# Altium integrated library Vishay Roederstein Electrolytic Snap-In Pins Capacitor.IntLib: 936 symbols (part 16 of 16)
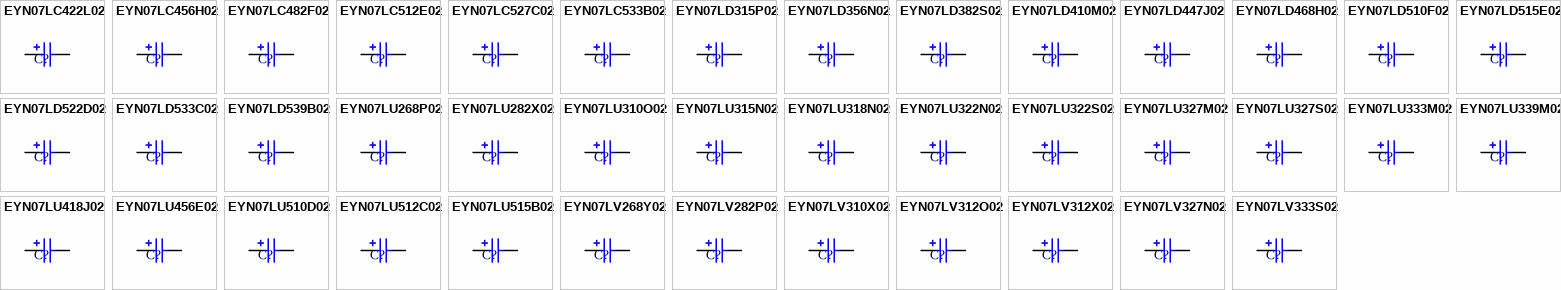
[diagram p38: symbols EYN07LC422L02 to EYN07LV333S02]

## EYN07LU322N02
designator C?
Aluminum Electrolytic Capacitor, Power Capacitor Style EYN, Snap-in 6mm Solder Pins: 220uF, 250V; PCB_Layout: Complies with Manufacturer's Recommendation.; DrillSize: Nominal, Complies with Manufacturer's Recommendation.; Published: 19-Mar-2004; DatasheetDocument: 4-Feb-2002; PackageReference: CAPPRS10-22X25; Publisher: Altium Limited; ComponentLink1Description: Manufacturer Link; ComponentLink1URL: http://www.vishay.com/; ComponentLink2Description: Datasheet; ComponentLink2URL: http://www.vishay.com/docs/25137/eyn.pdf; Value: 220uF
footprint CAPPRS10-22X25 (Capacitor, Electrolytic, Radial, Snap-In Pins; Body 22 x 25 mm (Dia.xH typ); Pin Spacing 10 mm (typ))
simulation model CAP (Capacitor)
signal-integrity model EYN07LU322N02
pins: 1, 2
1 alternate drawing of the same symbol

## EYN07LU322S02
designator C?
Aluminum Electrolytic Capacitor, Power Capacitor Style EYN, Snap-in 6mm Solder Pins: 220uF, 200V; PCB_Layout: Complies with Manufacturer's Recommendation.; DrillSize: Nominal, Complies with Manufacturer's Recommendation.; Published: 19-Mar-2004; DatasheetDocument: 4-Feb-2002; PackageReference: CAPPRS10-22X25; Publisher: Altium Limited; ComponentLink1Description: Manufacturer Link; ComponentLink1URL: http://www.vishay.com/; ComponentLink2Description: Datasheet; ComponentLink2URL: http://www.vishay.com/docs/25137/eyn.pdf; Value: 220uF
footprint CAPPRS10-22X25 (Capacitor, Electrolytic, Radial, Snap-In Pins; Body 22 x 25 mm (Dia.xH typ); Pin Spacing 10 mm (typ))
simulation model CAP (Capacitor)
signal-integrity model EYN07LU322S02
pins: 1, 2
1 alternate drawing of the same symbol

## EYN07LU327M02
designator C?
Aluminum Electrolytic Capacitor, Power Capacitor Style EYN, Snap-in 6mm Solder Pins: 270uF, 160V; PCB_Layout: Complies with Manufacturer's Recommendation.; DrillSize: Nominal, Complies with Manufacturer's Recommendation.; Published: 19-Mar-2004; DatasheetDocument: 4-Feb-2002; PackageReference: CAPPRS10-22X25; Publisher: Altium Limited; ComponentLink1Description: Manufacturer Link; ComponentLink1URL: http://www.vishay.com/; ComponentLink2Description: Datasheet; ComponentLink2URL: http://www.vishay.com/docs/25137/eyn.pdf; Value: 270uF
footprint CAPPRS10-22X25 (Capacitor, Electrolytic, Radial, Snap-In Pins; Body 22 x 25 mm (Dia.xH typ); Pin Spacing 10 mm (typ))
simulation model CAP (Capacitor)
signal-integrity model EYN07LU327M02
pins: 1, 2
1 alternate drawing of the same symbol

## EYN07LU327S02
designator C?
Aluminum Electrolytic Capacitor, Power Capacitor Style EYN, Snap-in 6mm Solder Pins: 270uF, 200V; PCB_Layout: Complies with Manufacturer's Recommendation.; DrillSize: Nominal, Complies with Manufacturer's Recommendation.; Published: 19-Mar-2004; DatasheetDocument: 4-Feb-2002; PackageReference: CAPPRS10-22X25; Publisher: Altium Limited; ComponentLink1Description: Manufacturer Link; ComponentLink1URL: http://www.vishay.com/; ComponentLink2Description: Datasheet; ComponentLink2URL: http://www.vishay.com/docs/25137/eyn.pdf; Value: 270uF
footprint CAPPRS10-22X25 (Capacitor, Electrolytic, Radial, Snap-In Pins; Body 22 x 25 mm (Dia.xH typ); Pin Spacing 10 mm (typ))
simulation model CAP (Capacitor)
signal-integrity model EYN07LU327S02
pins: 1, 2
1 alternate drawing of the same symbol

## EYN07LU333M02
designator C?
Aluminum Electrolytic Capacitor, Power Capacitor Style EYN, Snap-in 6mm Solder Pins: 330uF, 160V; PCB_Layout: Complies with Manufacturer's Recommendation.; DrillSize: Nominal, Complies with Manufacturer's Recommendation.; Published: 19-Mar-2004; DatasheetDocument: 4-Feb-2002; PackageReference: CAPPRS10-22X25; Publisher: Altium Limited; ComponentLink1Description: Manufacturer Link; ComponentLink1URL: http://www.vishay.com/; ComponentLink2Description: Datasheet; ComponentLink2URL: http://www.vishay.com/docs/25137/eyn.pdf; Value: 330uF
footprint CAPPRS10-22X25 (Capacitor, Electrolytic, Radial, Snap-In Pins; Body 22 x 25 mm (Dia.xH typ); Pin Spacing 10 mm (typ))
simulation model CAP (Capacitor)
signal-integrity model EYN07LU333M02
pins: 1, 2
1 alternate drawing of the same symbol

## EYN07LU339M02
designator C?
Aluminum Electrolytic Capacitor, Power Capacitor Style EYN, Snap-in 6mm Solder Pins: 390uF, 160V; PCB_Layout: Complies with Manufacturer's Recommendation.; DrillSize: Nominal, Complies with Manufacturer's Recommendation.; Published: 19-Mar-2004; DatasheetDocument: 4-Feb-2002; PackageReference: CAPPRS10-22X25; Publisher: Altium Limited; ComponentLink1Description: Manufacturer Link; ComponentLink1URL: http://www.vishay.com/; ComponentLink2Description: Datasheet; ComponentLink2URL: http://www.vishay.com/docs/25137/eyn.pdf; Value: 390uF
footprint CAPPRS10-22X25 (Capacitor, Electrolytic, Radial, Snap-In Pins; Body 22 x 25 mm (Dia.xH typ); Pin Spacing 10 mm (typ))
simulation model CAP (Capacitor)
signal-integrity model EYN07LU339M02
pins: 1, 2
1 alternate drawing of the same symbol

## EYN07LU418J02
designator C?
Aluminum Electrolytic Capacitor, Power Capacitor Style EYN, Snap-in 6mm Solder Pins: 1800uF, 63V; PCB_Layout: Complies with Manufacturer's Recommendation.; DrillSize: Nominal, Complies with Manufacturer's Recommendation.; Published: 19-Mar-2004; DatasheetDocument: 4-Feb-2002; PackageReference: CAPPRS10-22X25; Publisher: Altium Limited; ComponentLink1Description: Manufacturer Link; ComponentLink1URL: http://www.vishay.com/; ComponentLink2Description: Datasheet; ComponentLink2URL: http://www.vishay.com/docs/25137/eyn.pdf; Value: 1800uF
footprint CAPPRS10-22X25 (Capacitor, Electrolytic, Radial, Snap-In Pins; Body 22 x 25 mm (Dia.xH typ); Pin Spacing 10 mm (typ))
simulation model CAP (Capacitor)
signal-integrity model EYN07LU418J02
pins: 1, 2
1 alternate drawing of the same symbol

## EYN07LU456E02
designator C?
Aluminum Electrolytic Capacitor, Power Capacitor Style EYN, Snap-in 6mm Solder Pins: 5600uF, 25V; PCB_Layout: Complies with Manufacturer's Recommendation.; DrillSize: Nominal, Complies with Manufacturer's Recommendation.; Published: 19-Mar-2004; DatasheetDocument: 4-Feb-2002; PackageReference: CAPPRS10-22X25; Publisher: Altium Limited; ComponentLink1Description: Manufacturer Link; ComponentLink1URL: http://www.vishay.com/; ComponentLink2Description: Datasheet; ComponentLink2URL: http://www.vishay.com/docs/25137/eyn.pdf; Value: 5600uF
footprint CAPPRS10-22X25 (Capacitor, Electrolytic, Radial, Snap-In Pins; Body 22 x 25 mm (Dia.xH typ); Pin Spacing 10 mm (typ))
simulation model CAP (Capacitor)
signal-integrity model EYN07LU456E02
pins: 1, 2
1 alternate drawing of the same symbol

## EYN07LU510D02
designator C?
Aluminum Electrolytic Capacitor, Power Capacitor Style EYN, Snap-in 6mm Solder Pins: 10000uF, 16V; PCB_Layout: Complies with Manufacturer's Recommendation.; DrillSize: Nominal, Complies with Manufacturer's Recommendation.; Published: 19-Mar-2004; DatasheetDocument: 4-Feb-2002; PackageReference: CAPPRS10-22X25; Publisher: Altium Limited; ComponentLink1Description: Manufacturer Link; ComponentLink1URL: http://www.vishay.com/; ComponentLink2Description: Datasheet; ComponentLink2URL: http://www.vishay.com/docs/25137/eyn.pdf; Value: 10000uF
footprint CAPPRS10-22X25 (Capacitor, Electrolytic, Radial, Snap-In Pins; Body 22 x 25 mm (Dia.xH typ); Pin Spacing 10 mm (typ))
simulation model CAP (Capacitor)
signal-integrity model EYN07LU510D02
pins: 1, 2
1 alternate drawing of the same symbol

## EYN07LU512C02
designator C?
Aluminum Electrolytic Capacitor, Power Capacitor Style EYN, Snap-in 6mm Solder Pins: 12000uF, 10V; PCB_Layout: Complies with Manufacturer's Recommendation.; DrillSize: Nominal, Complies with Manufacturer's Recommendation.; Published: 19-Mar-2004; DatasheetDocument: 4-Feb-2002; PackageReference: CAPPRS10-22X25; Publisher: Altium Limited; ComponentLink1Description: Manufacturer Link; ComponentLink1URL: http://www.vishay.com/; ComponentLink2Description: Datasheet; ComponentLink2URL: http://www.vishay.com/docs/25137/eyn.pdf; Value: 12000uF
footprint CAPPRS10-22X25 (Capacitor, Electrolytic, Radial, Snap-In Pins; Body 22 x 25 mm (Dia.xH typ); Pin Spacing 10 mm (typ))
simulation model CAP (Capacitor)
signal-integrity model EYN07LU512C02
pins: 1, 2
1 alternate drawing of the same symbol

## EYN07LU515B02
designator C?
Aluminum Electrolytic Capacitor, Power Capacitor Style EYN, Snap-in 6mm Solder Pins: 15000uF, 6.3V; PCB_Layout: Complies with Manufacturer's Recommendation.; DrillSize: Nominal, Complies with Manufacturer's Recommendation.; Published: 19-Mar-2004; DatasheetDocument: 4-Feb-2002; PackageReference: CAPPRS10-22X25; Publisher: Altium Limited; ComponentLink1Description: Manufacturer Link; ComponentLink1URL: http://www.vishay.com/; ComponentLink2Description: Datasheet; ComponentLink2URL: http://www.vishay.com/docs/25137/eyn.pdf; Value: 15000uF
footprint CAPPRS10-22X25 (Capacitor, Electrolytic, Radial, Snap-In Pins; Body 22 x 25 mm (Dia.xH typ); Pin Spacing 10 mm (typ))
simulation model CAP (Capacitor)
signal-integrity model EYN07LU515B02
pins: 1, 2
1 alternate drawing of the same symbol

## EYN07LV268Y02
designator C?
Aluminum Electrolytic Capacitor, Power Capacitor Style EYN, Snap-in 6mm Solder Pins: 68uF, 500V; PCB_Layout: Complies with Manufacturer's Recommendation.; DrillSize: Nominal, Complies with Manufacturer's Recommendation.; Published: 19-Mar-2004; DatasheetDocument: 4-Feb-2002; PackageReference: CAPPRS10-22X30; Publisher: Altium Limited; ComponentLink1Description: Manufacturer Link; ComponentLink1URL: http://www.vishay.com/; ComponentLink2Description: Datasheet; ComponentLink2URL: http://www.vishay.com/docs/25137/eyn.pdf; Value: 68uF
footprint CAPPRS10-22X30 (Capacitor, Electrolytic, Radial, Snap-In Pins; Body 22 x 30 mm (Dia.xH typ); Pin Spacing 10 mm (typ))
simulation model CAP (Capacitor)
signal-integrity model EYN07LV268Y02
pins: 1, 2
1 alternate drawing of the same symbol

## EYN07LV282P02
designator C?
Aluminum Electrolytic Capacitor, Power Capacitor Style EYN, Snap-in 6mm Solder Pins: 82uF, 450V; PCB_Layout: Complies with Manufacturer's Recommendation.; DrillSize: Nominal, Complies with Manufacturer's Recommendation.; Published: 19-Mar-2004; DatasheetDocument: 4-Feb-2002; PackageReference: CAPPRS10-22X30; Publisher: Altium Limited; ComponentLink1Description: Manufacturer Link; ComponentLink1URL: http://www.vishay.com/; ComponentLink2Description: Datasheet; ComponentLink2URL: http://www.vishay.com/docs/25137/eyn.pdf; Value: 82uF
footprint CAPPRS10-22X30 (Capacitor, Electrolytic, Radial, Snap-In Pins; Body 22 x 30 mm (Dia.xH typ); Pin Spacing 10 mm (typ))
simulation model CAP (Capacitor)
signal-integrity model EYN07LV282P02
pins: 1, 2
1 alternate drawing of the same symbol

## EYN07LV310X02
designator C?
Aluminum Electrolytic Capacitor, Power Capacitor Style EYN, Snap-in 6mm Solder Pins: 100uF, 400V; PCB_Layout: Complies with Manufacturer's Recommendation.; DrillSize: Nominal, Complies with Manufacturer's Recommendation.; Published: 19-Mar-2004; DatasheetDocument: 4-Feb-2002; PackageReference: CAPPRS10-22X30; Publisher: Altium Limited; ComponentLink1Description: Manufacturer Link; ComponentLink1URL: http://www.vishay.com/; ComponentLink2Description: Datasheet; ComponentLink2URL: http://www.vishay.com/docs/25137/eyn.pdf; Value: 100uF
footprint CAPPRS10-22X30 (Capacitor, Electrolytic, Radial, Snap-In Pins; Body 22 x 30 mm (Dia.xH typ); Pin Spacing 10 mm (typ))
simulation model CAP (Capacitor)
signal-integrity model EYN07LV310X02
pins: 1, 2
1 alternate drawing of the same symbol

## EYN07LV312O02
designator C?
Aluminum Electrolytic Capacitor, Power Capacitor Style EYN, Snap-in 6mm Solder Pins: 120uF, 350V; PCB_Layout: Complies with Manufacturer's Recommendation.; DrillSize: Nominal, Complies with Manufacturer's Recommendation.; Published: 19-Mar-2004; DatasheetDocument: 4-Feb-2002; PackageReference: CAPPRS10-22X30; Publisher: Altium Limited; ComponentLink1Description: Manufacturer Link; ComponentLink1URL: http://www.vishay.com/; ComponentLink2Description: Datasheet; ComponentLink2URL: http://www.vishay.com/docs/25137/eyn.pdf; Value: 120uF
footprint CAPPRS10-22X30 (Capacitor, Electrolytic, Radial, Snap-In Pins; Body 22 x 30 mm (Dia.xH typ); Pin Spacing 10 mm (typ))
simulation model CAP (Capacitor)
signal-integrity model EYN07LV312O02
pins: 1, 2
1 alternate drawing of the same symbol

## EYN07LV312X02
designator C?
Aluminum Electrolytic Capacitor, Power Capacitor Style EYN, Snap-in 6mm Solder Pins: 120uF, 400V; PCB_Layout: Complies with Manufacturer's Recommendation.; DrillSize: Nominal, Complies with Manufacturer's Recommendation.; Published: 19-Mar-2004; DatasheetDocument: 4-Feb-2002; PackageReference: CAPPRS10-22X30; Publisher: Altium Limited; ComponentLink1Description: Manufacturer Link; ComponentLink1URL: http://www.vishay.com/; ComponentLink2Description: Datasheet; ComponentLink2URL: http://www.vishay.com/docs/25137/eyn.pdf; Value: 120uF
footprint CAPPRS10-22X30 (Capacitor, Electrolytic, Radial, Snap-In Pins; Body 22 x 30 mm (Dia.xH typ); Pin Spacing 10 mm (typ))
simulation model CAP (Capacitor)
signal-integrity model EYN07LV312X02
pins: 1, 2
1 alternate drawing of the same symbol

## EYN07LV327N02
designator C?
Aluminum Electrolytic Capacitor, Power Capacitor Style EYN, Snap-in 6mm Solder Pins: 270uF, 250V; PCB_Layout: Complies with Manufacturer's Recommendation.; DrillSize: Nominal, Complies with Manufacturer's Recommendation.; Published: 19-Mar-2004; DatasheetDocument: 4-Feb-2002; PackageReference: CAPPRS10-22X30; Publisher: Altium Limited; ComponentLink1Description: Manufacturer Link; ComponentLink1URL: http://www.vishay.com/; ComponentLink2Description: Datasheet; ComponentLink2URL: http://www.vishay.com/docs/25137/eyn.pdf; Value: 270uF
footprint CAPPRS10-22X30 (Capacitor, Electrolytic, Radial, Snap-In Pins; Body 22 x 30 mm (Dia.xH typ); Pin Spacing 10 mm (typ))
simulation model CAP (Capacitor)
signal-integrity model EYN07LV327N02
pins: 1, 2
1 alternate drawing of the same symbol

## EYN07LV333S02
designator C?
Aluminum Electrolytic Capacitor, Power Capacitor Style EYN, Snap-in 6mm Solder Pins: 330uF, 200V; PCB_Layout: Complies with Manufacturer's Recommendation.; DrillSize: Nominal, Complies with Manufacturer's Recommendation.; Published: 19-Mar-2004; DatasheetDocument: 4-Feb-2002; PackageReference: CAPPRS10-22X30; Publisher: Altium Limited; ComponentLink1Description: Manufacturer Link; ComponentLink1URL: http://www.vishay.com/; ComponentLink2Description: Datasheet; ComponentLink2URL: http://www.vishay.com/docs/25137/eyn.pdf; Value: 330uF
footprint CAPPRS10-22X30 (Capacitor, Electrolytic, Radial, Snap-In Pins; Body 22 x 30 mm (Dia.xH typ); Pin Spacing 10 mm (typ))
simulation model CAP (Capacitor)
signal-integrity model EYN07LV333S02
pins: 1, 2
1 alternate drawing of the same symbol

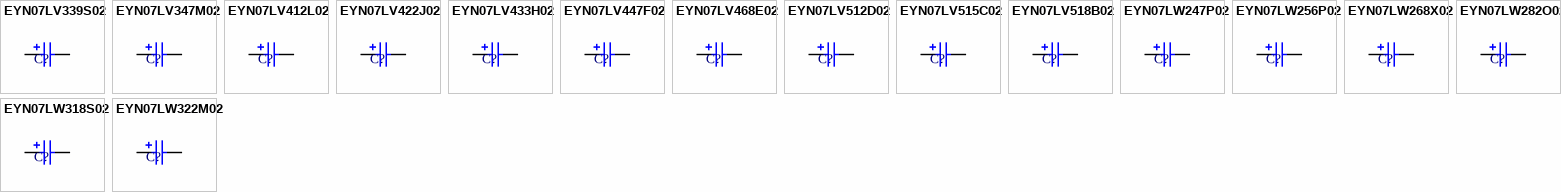
[diagram p23: symbols EYN07LV339S02 to EYN07LW322M02]

## EYN07LV339S02
designator C?
Aluminum Electrolytic Capacitor, Power Capacitor Style EYN, Snap-in 6mm Solder Pins: 390uF, 200V; PCB_Layout: Complies with Manufacturer's Recommendation.; DrillSize: Nominal, Complies with Manufacturer's Recommendation.; Published: 19-Mar-2004; DatasheetDocument: 4-Feb-2002; PackageReference: CAPPRS10-22X30; Publisher: Altium Limited; ComponentLink1Description: Manufacturer Link; ComponentLink1URL: http://www.vishay.com/; ComponentLink2Description: Datasheet; ComponentLink2URL: http://www.vishay.com/docs/25137/eyn.pdf; Value: 390uF
footprint CAPPRS10-22X30 (Capacitor, Electrolytic, Radial, Snap-In Pins; Body 22 x 30 mm (Dia.xH typ); Pin Spacing 10 mm (typ))
simulation model CAP (Capacitor)
signal-integrity model EYN07LV339S02
pins: 1, 2
1 alternate drawing of the same symbol

## EYN07LV347M02
designator C?
Aluminum Electrolytic Capacitor, Power Capacitor Style EYN, Snap-in 6mm Solder Pins: 470uF, 160V; PCB_Layout: Complies with Manufacturer's Recommendation.; DrillSize: Nominal, Complies with Manufacturer's Recommendation.; Published: 19-Mar-2004; DatasheetDocument: 4-Feb-2002; PackageReference: CAPPRS10-22X30; Publisher: Altium Limited; ComponentLink1Description: Manufacturer Link; ComponentLink1URL: http://www.vishay.com/; ComponentLink2Description: Datasheet; ComponentLink2URL: http://www.vishay.com/docs/25137/eyn.pdf; Value: 470uF
footprint CAPPRS10-22X30 (Capacitor, Electrolytic, Radial, Snap-In Pins; Body 22 x 30 mm (Dia.xH typ); Pin Spacing 10 mm (typ))
simulation model CAP (Capacitor)
signal-integrity model EYN07LV347M02
pins: 1, 2
1 alternate drawing of the same symbol

## EYN07LV412L02
designator C?
Aluminum Electrolytic Capacitor, Power Capacitor Style EYN, Snap-in 6mm Solder Pins: 1200uF, 100V; PCB_Layout: Complies with Manufacturer's Recommendation.; DrillSize: Nominal, Complies with Manufacturer's Recommendation.; Published: 19-Mar-2004; DatasheetDocument: 4-Feb-2002; PackageReference: CAPPRS10-22X30; Publisher: Altium Limited; ComponentLink1Description: Manufacturer Link; ComponentLink1URL: http://www.vishay.com/; ComponentLink2Description: Datasheet; ComponentLink2URL: http://www.vishay.com/docs/25137/eyn.pdf; Value: 1200uF
footprint CAPPRS10-22X30 (Capacitor, Electrolytic, Radial, Snap-In Pins; Body 22 x 30 mm (Dia.xH typ); Pin Spacing 10 mm (typ))
simulation model CAP (Capacitor)
signal-integrity model EYN07LV412L02
pins: 1, 2
1 alternate drawing of the same symbol

## EYN07LV422J02
designator C?
Aluminum Electrolytic Capacitor, Power Capacitor Style EYN, Snap-in 6mm Solder Pins: 2200uF, 63V; PCB_Layout: Complies with Manufacturer's Recommendation.; DrillSize: Nominal, Complies with Manufacturer's Recommendation.; Published: 19-Mar-2004; DatasheetDocument: 4-Feb-2002; PackageReference: CAPPRS10-22X30; Publisher: Altium Limited; ComponentLink1Description: Manufacturer Link; ComponentLink1URL: http://www.vishay.com/; ComponentLink2Description: Datasheet; ComponentLink2URL: http://www.vishay.com/docs/25137/eyn.pdf; Value: 2200uF
footprint CAPPRS10-22X30 (Capacitor, Electrolytic, Radial, Snap-In Pins; Body 22 x 30 mm (Dia.xH typ); Pin Spacing 10 mm (typ))
simulation model CAP (Capacitor)
signal-integrity model EYN07LV422J02
pins: 1, 2
1 alternate drawing of the same symbol

## EYN07LV433H02
designator C?
Aluminum Electrolytic Capacitor, Power Capacitor Style EYN, Snap-in 6mm Solder Pins: 3300uF, 50V; PCB_Layout: Complies with Manufacturer's Recommendation.; DrillSize: Nominal, Complies with Manufacturer's Recommendation.; Published: 19-Mar-2004; DatasheetDocument: 4-Feb-2002; PackageReference: CAPPRS10-22X30; Publisher: Altium Limited; ComponentLink1Description: Manufacturer Link; ComponentLink1URL: http://www.vishay.com/; ComponentLink2Description: Datasheet; ComponentLink2URL: http://www.vishay.com/docs/25137/eyn.pdf; Value: 3300uF
footprint CAPPRS10-22X30 (Capacitor, Electrolytic, Radial, Snap-In Pins; Body 22 x 30 mm (Dia.xH typ); Pin Spacing 10 mm (typ))
simulation model CAP (Capacitor)
signal-integrity model EYN07LV433H02
pins: 1, 2
1 alternate drawing of the same symbol

## EYN07LV447F02
designator C?
Aluminum Electrolytic Capacitor, Power Capacitor Style EYN, Snap-in 6mm Solder Pins: 4700uF, 35V; PCB_Layout: Complies with Manufacturer's Recommendation.; DrillSize: Nominal, Complies with Manufacturer's Recommendation.; Published: 19-Mar-2004; DatasheetDocument: 4-Feb-2002; PackageReference: CAPPRS10-22X30; Publisher: Altium Limited; ComponentLink1Description: Manufacturer Link; ComponentLink1URL: http://www.vishay.com/; ComponentLink2Description: Datasheet; ComponentLink2URL: http://www.vishay.com/docs/25137/eyn.pdf; Value: 4700uF
footprint CAPPRS10-22X30 (Capacitor, Electrolytic, Radial, Snap-In Pins; Body 22 x 30 mm (Dia.xH typ); Pin Spacing 10 mm (typ))
simulation model CAP (Capacitor)
signal-integrity model EYN07LV447F02
pins: 1, 2
1 alternate drawing of the same symbol

## EYN07LV468E02
designator C?
Aluminum Electrolytic Capacitor, Power Capacitor Style EYN, Snap-in 6mm Solder Pins: 6800uF, 25V; PCB_Layout: Complies with Manufacturer's Recommendation.; DrillSize: Nominal, Complies with Manufacturer's Recommendation.; Published: 19-Mar-2004; DatasheetDocument: 4-Feb-2002; PackageReference: CAPPRS10-22X30; Publisher: Altium Limited; ComponentLink1Description: Manufacturer Link; ComponentLink1URL: http://www.vishay.com/; ComponentLink2Description: Datasheet; ComponentLink2URL: http://www.vishay.com/docs/25137/eyn.pdf; Value: 6800uF
footprint CAPPRS10-22X30 (Capacitor, Electrolytic, Radial, Snap-In Pins; Body 22 x 30 mm (Dia.xH typ); Pin Spacing 10 mm (typ))
simulation model CAP (Capacitor)
signal-integrity model EYN07LV468E02
pins: 1, 2
1 alternate drawing of the same symbol

## EYN07LV512D02
designator C?
Aluminum Electrolytic Capacitor, Power Capacitor Style EYN, Snap-in 6mm Solder Pins: 12000uF, 16V; PCB_Layout: Complies with Manufacturer's Recommendation.; DrillSize: Nominal, Complies with Manufacturer's Recommendation.; Published: 19-Mar-2004; DatasheetDocument: 4-Feb-2002; PackageReference: CAPPRS10-22X30; Publisher: Altium Limited; ComponentLink1Description: Manufacturer Link; ComponentLink1URL: http://www.vishay.com/; ComponentLink2Description: Datasheet; ComponentLink2URL: http://www.vishay.com/docs/25137/eyn.pdf; Value: 12000uF
footprint CAPPRS10-22X30 (Capacitor, Electrolytic, Radial, Snap-In Pins; Body 22 x 30 mm (Dia.xH typ); Pin Spacing 10 mm (typ))
simulation model CAP (Capacitor)
signal-integrity model EYN07LV512D02
pins: 1, 2
1 alternate drawing of the same symbol

## EYN07LV515C02
designator C?
Aluminum Electrolytic Capacitor, Power Capacitor Style EYN, Snap-in 6mm Solder Pins: 15000uF, 10V; PCB_Layout: Complies with Manufacturer's Recommendation.; DrillSize: Nominal, Complies with Manufacturer's Recommendation.; Published: 19-Mar-2004; DatasheetDocument: 4-Feb-2002; PackageReference: CAPPRS10-22X30; Publisher: Altium Limited; ComponentLink1Description: Manufacturer Link; ComponentLink1URL: http://www.vishay.com/; ComponentLink2Description: Datasheet; ComponentLink2URL: http://www.vishay.com/docs/25137/eyn.pdf; Value: 15000uF
footprint CAPPRS10-22X30 (Capacitor, Electrolytic, Radial, Snap-In Pins; Body 22 x 30 mm (Dia.xH typ); Pin Spacing 10 mm (typ))
simulation model CAP (Capacitor)
signal-integrity model EYN07LV515C02
pins: 1, 2
1 alternate drawing of the same symbol

## EYN07LV518B02
designator C?
Aluminum Electrolytic Capacitor, Power Capacitor Style EYN, Snap-in 6mm Solder Pins: 18000uF, 6.3V; PCB_Layout: Complies with Manufacturer's Recommendation.; DrillSize: Nominal, Complies with Manufacturer's Recommendation.; Published: 19-Mar-2004; DatasheetDocument: 4-Feb-2002; PackageReference: CAPPRS10-22X30; Publisher: Altium Limited; ComponentLink1Description: Manufacturer Link; ComponentLink1URL: http://www.vishay.com/; ComponentLink2Description: Datasheet; ComponentLink2URL: http://www.vishay.com/docs/25137/eyn.pdf; Value: 18000uF
footprint CAPPRS10-22X30 (Capacitor, Electrolytic, Radial, Snap-In Pins; Body 22 x 30 mm (Dia.xH typ); Pin Spacing 10 mm (typ))
simulation model CAP (Capacitor)
signal-integrity model EYN07LV518B02
pins: 1, 2
1 alternate drawing of the same symbol

## EYN07LW247P02
designator C?
Aluminum Electrolytic Capacitor, Power Capacitor Style EYN, Snap-in 6mm Solder Pins: 47uF, 450V; PCB_Layout: Complies with Manufacturer's Recommendation.; DrillSize: Nominal, Complies with Manufacturer's Recommendation.; Published: 19-Mar-2004; DatasheetDocument: 4-Feb-2002; PackageReference: CAPPRS10-22X20; Publisher: Altium Limited; ComponentLink1Description: Manufacturer Link; ComponentLink1URL: http://www.vishay.com/; ComponentLink2Description: Datasheet; ComponentLink2URL: http://www.vishay.com/docs/25137/eyn.pdf; Value: 47uF
footprint CAPPRS10-22X20 (Capacitor, Electrolytic, Radial, Snap-In Pins; Body 22 x 20 mm (Dia.xH typ); Pin Spacing 10 mm (typ))
simulation model CAP (Capacitor)
signal-integrity model EYN07LW247P02
pins: 1, 2
1 alternate drawing of the same symbol

## EYN07LW256P02
designator C?
Aluminum Electrolytic Capacitor, Power Capacitor Style EYN, Snap-in 6mm Solder Pins: 56uF, 450V; PCB_Layout: Complies with Manufacturer's Recommendation.; DrillSize: Nominal, Complies with Manufacturer's Recommendation.; Published: 19-Mar-2004; DatasheetDocument: 4-Feb-2002; PackageReference: CAPPRS10-22X20; Publisher: Altium Limited; ComponentLink1Description: Manufacturer Link; ComponentLink1URL: http://www.vishay.com/; ComponentLink2Description: Datasheet; ComponentLink2URL: http://www.vishay.com/docs/25137/eyn.pdf; Value: 56uF
footprint CAPPRS10-22X20 (Capacitor, Electrolytic, Radial, Snap-In Pins; Body 22 x 20 mm (Dia.xH typ); Pin Spacing 10 mm (typ))
simulation model CAP (Capacitor)
signal-integrity model EYN07LW256P02
pins: 1, 2
1 alternate drawing of the same symbol

## EYN07LW268X02
designator C?
Aluminum Electrolytic Capacitor, Power Capacitor Style EYN, Snap-in 6mm Solder Pins: 68uF, 400V; PCB_Layout: Complies with Manufacturer's Recommendation.; DrillSize: Nominal, Complies with Manufacturer's Recommendation.; Published: 19-Mar-2004; DatasheetDocument: 4-Feb-2002; PackageReference: CAPPRS10-22X20; Publisher: Altium Limited; ComponentLink1Description: Manufacturer Link; ComponentLink1URL: http://www.vishay.com/; ComponentLink2Description: Datasheet; ComponentLink2URL: http://www.vishay.com/docs/25137/eyn.pdf; Value: 68uF
footprint CAPPRS10-22X20 (Capacitor, Electrolytic, Radial, Snap-In Pins; Body 22 x 20 mm (Dia.xH typ); Pin Spacing 10 mm (typ))
simulation model CAP (Capacitor)
signal-integrity model EYN07LW268X02
pins: 1, 2
1 alternate drawing of the same symbol

## EYN07LW282O02
designator C?
Aluminum Electrolytic Capacitor, Power Capacitor Style EYN, Snap-in 6mm Solder Pins: 82uF, 350V; PCB_Layout: Complies with Manufacturer's Recommendation.; DrillSize: Nominal, Complies with Manufacturer's Recommendation.; Published: 19-Mar-2004; DatasheetDocument: 4-Feb-2002; PackageReference: CAPPRS10-22X20; Publisher: Altium Limited; ComponentLink1Description: Manufacturer Link; ComponentLink1URL: http://www.vishay.com/; ComponentLink2Description: Datasheet; ComponentLink2URL: http://www.vishay.com/docs/25137/eyn.pdf; Value: 82uF
footprint CAPPRS10-22X20 (Capacitor, Electrolytic, Radial, Snap-In Pins; Body 22 x 20 mm (Dia.xH typ); Pin Spacing 10 mm (typ))
simulation model CAP (Capacitor)
signal-integrity model EYN07LW282O02
pins: 1, 2
1 alternate drawing of the same symbol

## EYN07LW318S02
designator C?
Aluminum Electrolytic Capacitor, Power Capacitor Style EYN, Snap-in 6mm Solder Pins: 180uF, 200V; PCB_Layout: Complies with Manufacturer's Recommendation.; DrillSize: Nominal, Complies with Manufacturer's Recommendation.; Published: 19-Mar-2004; DatasheetDocument: 4-Feb-2002; PackageReference: CAPPRS10-22X20; Publisher: Altium Limited; ComponentLink1Description: Manufacturer Link; ComponentLink1URL: http://www.vishay.com/; ComponentLink2Description: Datasheet; ComponentLink2URL: http://www.vishay.com/docs/25137/eyn.pdf; Value: 180uF
footprint CAPPRS10-22X20 (Capacitor, Electrolytic, Radial, Snap-In Pins; Body 22 x 20 mm (Dia.xH typ); Pin Spacing 10 mm (typ))
simulation model CAP (Capacitor)
signal-integrity model EYN07LW318S02
pins: 1, 2
1 alternate drawing of the same symbol

## EYN07LW322M02
designator C?
Aluminum Electrolytic Capacitor, Power Capacitor Style EYN, Snap-in 6mm Solder Pins: 220uF, 160V; PCB_Layout: Complies with Manufacturer's Recommendation.; DrillSize: Nominal, Complies with Manufacturer's Recommendation.; Published: 19-Mar-2004; DatasheetDocument: 4-Feb-2002; PackageReference: CAPPRS10-22X20; Publisher: Altium Limited; ComponentLink1Description: Manufacturer Link; ComponentLink1URL: http://www.vishay.com/; ComponentLink2Description: Datasheet; ComponentLink2URL: http://www.vishay.com/docs/25137/eyn.pdf; Value: 220uF
footprint CAPPRS10-22X20 (Capacitor, Electrolytic, Radial, Snap-In Pins; Body 22 x 20 mm (Dia.xH typ); Pin Spacing 10 mm (typ))
simulation model CAP (Capacitor)
signal-integrity model EYN07LW322M02
pins: 1, 2
1 alternate drawing of the same symbol